# EAGLE library part HC-05_BLUETOOTH (library ZUBA_MINISUMO)
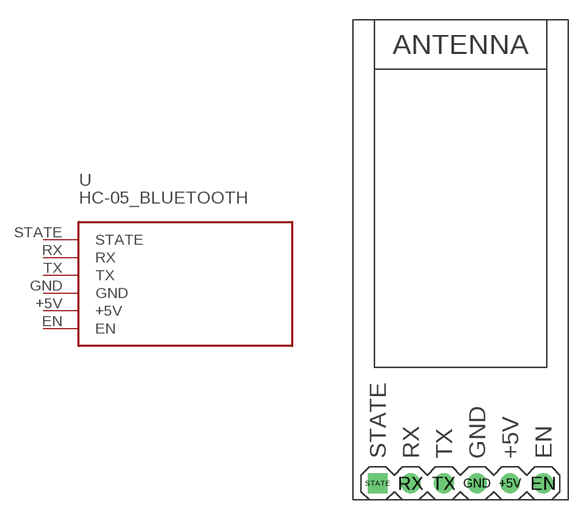
[diagram p5: symbol with the pads of HC-05; footprint HC-05]

Designator prefix -

## HC-05_BLUETOOTH  [HC-05]
+5V  +5V  pwr
EN  EN
GND  GND  pwr
RX  RX
STATE  STATE
TX  TX

## Footprint HC-05 (pad centres in mm)
drill 1: +5V 3.81,-3.175; EN 6.35,-3.175; GND 1.27,-3.175; RX -3.81,-3.175; TX -1.27,-3.175
drill 1 square: STATE -6.35,-3.175